# Altium footprint library PCBLIB1.PCBLIB: 42 footprints (part 3 of 3)
Each footprint in its own frame and in the unit in brackets; x right, y up, seen from the top. Pads: shape width x height; smd on the part's side, far side on the other; paste and mask are expansions set on the pad; w line width, h text height; cw(c..) or ccw(c..) is an arc to the next point about the centre after c.
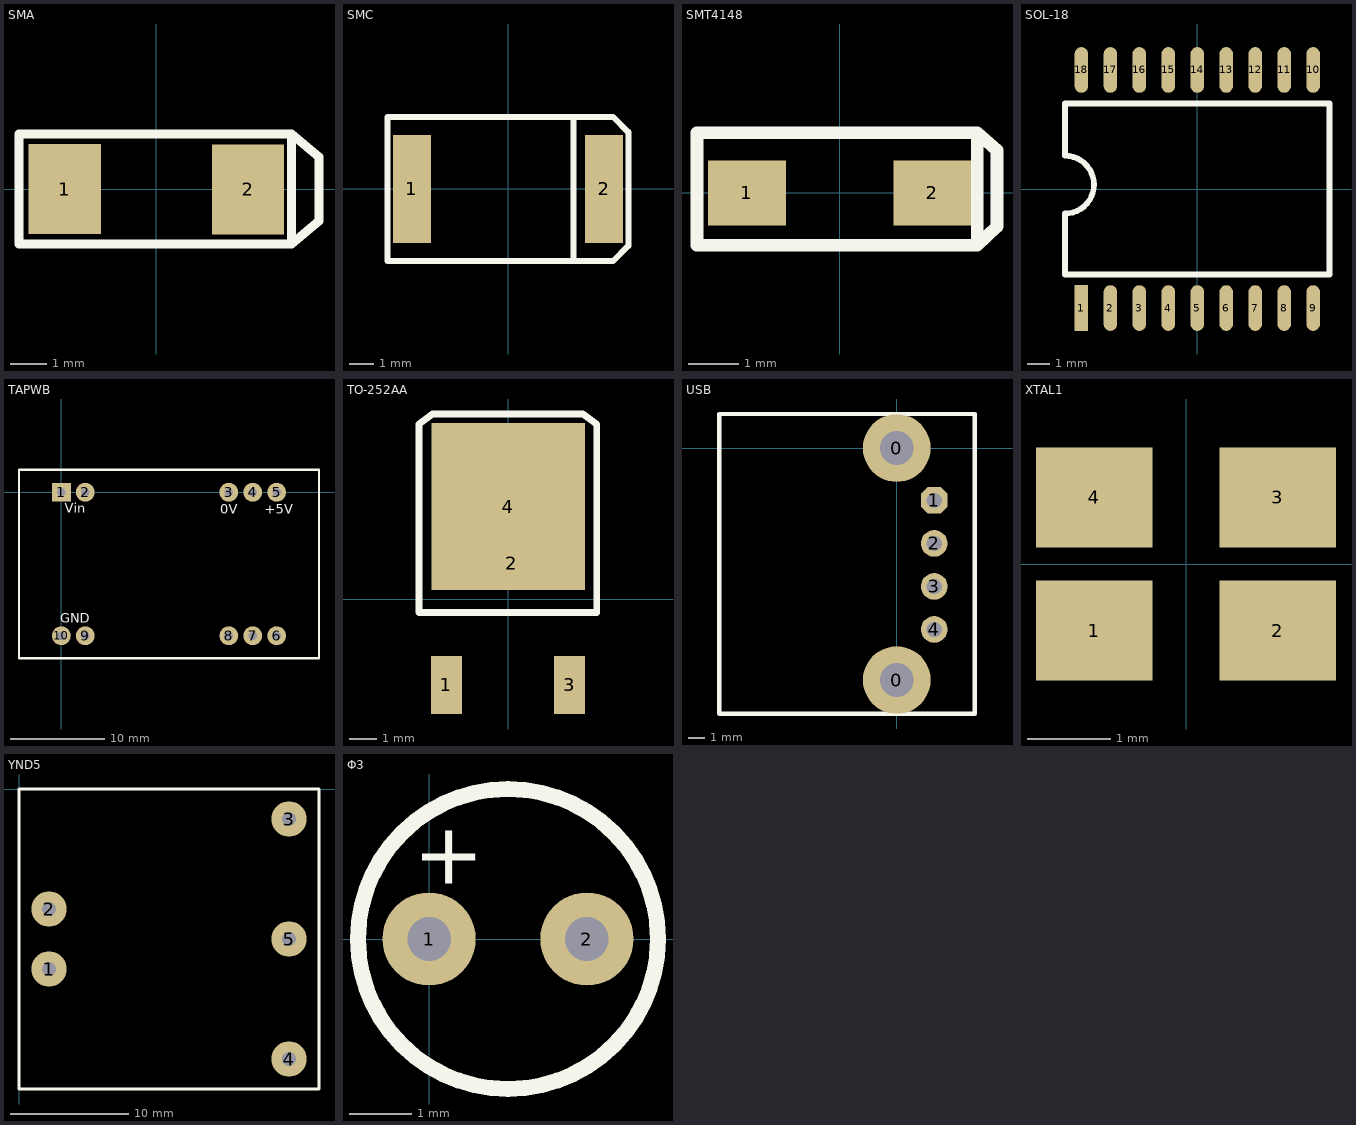
[diagram p2: the footprints below, top view; thin cyan lines are the x and y axes]

## SMA [mm]
pads (2):
  rect 2x2.5 smd: 1(-2.541,0.005) 2(2.541,-0.005)
TopOverlay:
  lines w0.254: 3.745,1.402 3.745,-1.519 ; 3.745,-1.519 4.507,-0.884 4.507,0.894 3.745,1.529 -3.811,1.529 -3.811,-1.519 3.745,-1.519

## SMC [mm]
pads (2):
  rect 1.6x4.5 smd: 1(-4,0) 2(4,0)
TopOverlay:
  lines w0.254: 2.73,-3 2.73,3 ; 5.016,-2.365 4.381,-3 -5.016,-3 -5.016,3 4.381,3 5.016,2.365 5.016,2.332 5.016,-2.334
BottomOverlay:
  lines w0.254: 5.016,-2.365 5.016,-2.334

## SMT4148 [mm]
pads (2):
  rect 1.55x1.3 smd: 1(-1.85,0) 2(1.85,0)
TopOverlay:
  lines w0.254: -2.848,1.201 -2.848,-1.049 2.75,-1.049 ; -2.847,1.2 2.75,1.2 ; 2.75,-1.049 2.75,1.2 ; 2.75,-1.049 3.144,-0.672 3.144,0.852 2.75,1.2

## SOL-18 [mm]
pads (18):
  rect 0.6x2 smd: 1(-5.08,-5.216)
  oval 0.6x2 smd: 2(-3.81,-5.216) 3(-2.54,-5.216) 4(-1.27,-5.216) 5(0,-5.216) 6(1.27,-5.216) 7(2.54,-5.216) 8(3.81,-5.216) 9(5.08,-5.216) 10(5.08,5.216) 11(3.81,5.216) 12(2.54,5.216) 13(1.27,5.216) 14(0,5.216) 15(-1.27,5.216) 16(-2.54,5.216) 17(-3.81,5.216) 18(-5.08,5.216)
TopOverlay:
  lines w0.254: -5.8,-3.754 -5.8,-1.079 ccw(c-5.8,0.191) -4.53,0.19 ccw(c-5.8,0.191) -5.8,1.46 -5.8,3.746 5.8,3.746 5.8,-3.754 -5.8,-3.754

## TAPWB [mm]
pads (10):
  rect 2x2 hole 0.9: 1(0,0)
  round 2 hole 0.9: 2(2.54,0) 3(17.78,0) 4(20.32,0) 5(22.86,0) 6(22.86,-15.24) 7(20.32,-15.24) 8(17.789,-15.24) 9(2.54,-15.24) 10(0,-15.24)
TopOverlay:
  lines w0.254: -4.5,-17.64 -4.5,2.4 27.36,2.4 27.36,-17.64 -4.5,-17.64
  text "Vin" at 0.381,-2.159 h1
  text "GND" at -0.127,-13.843 h1
  text "0V" at 16.891,-2.286 h1
  text "+5V" at 21.59,-2.286 h1

## TO-252AA [mil]
pads (4):
  rect 45x85 smd: 1(-90.16,-125.5) 3(89.76,-125.5)
  rect 78.74x78.74 smd: 2(5,52.5)
  rect 224.41x244.09 smd: 4(0,135)
TopOverlay:
  lines w10: -130.5,-19.5 -130.5,255.5 -110.5,270.5 -0.5,270.5 109.5,270.5 129.5,255.5 129.5,-19.5 -130.5,-19.5

## USB [mil]
pads (6):
  round 157.48 hole 78.74: 0(0,-539.37) 0(0,0)
  oct 62x62 hole 35: 1(87.11,-121.61)
  round 62 hole 35: 2(87.11,-221.61) 3(87.11,-321.61) 4(87.11,-421.61)
TopOverlay:
  lines w10: -412.89,-617.67 181.6,-617.67 ; -412.89,-617.67 181.6,-617.67 ; -412.89,-617.67 -412.89,79.18 181.6,79.18 181.6,-617.67

## XTAL1 [mm] "Crystal Footprint"
pads (4):
  rect 1.4x1.2 smd: 1(-1.1,-0.8) 2(1.1,-0.8) 3(1.1,0.8) 4(-1.1,0.8)

## YND5 [mm]
pads (5):
  round 3 hole 1.2: 1(2.54,-15.24) 2(2.54,-10.16) 3(22.86,-2.54) 4(22.86,-22.86) 5(22.86,-12.7)
TopOverlay:
  lines w0.254: 0,-25.4 25.4,-25.4 25.4,0 0,0 0,-25.4

## Φ3 [mm]
pads (2):
  round 1.5 hole 0.7: 1(0,0) 2(2.54,0)
TopOverlay:
  circle w0.254: c1.27,0 r2.413
  text "+" at -0.254,0.889 h1